# EAGLE library part 504520-0691 (library 504520-0691)
micro-SIM Card Connector; Pin-Eject Type; Dual Hook Locks; Anti-Buckling Terminal
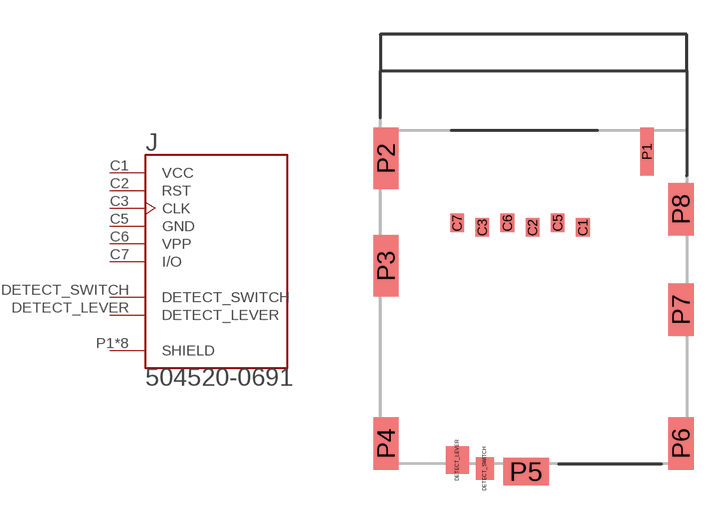
[diagram p0: symbol with the pads of MOLEX_504520-0691; footprint MOLEX_504520-0691]

Designator prefix J

## 504520-0691 (Description: Connector: for cards; Nano SIM; without card tray; SMT; PIN: 6; Digi-Key_Part_Number: WM12731CT-ND; Digi-Key_Purchase_URL: https://www.digikey.cz/product-detail/en/molex-llc/5045200691/WM12731CT-ND/5822267?utm_source=snapeda&utm_medium=aggregator&utm_campaign=symbol; MF: Molex; MP: 5045200691; Package: None)  [MOLEX_504520-0691]
C1  VCC  pwr
C2  RST
C3  CLK
C5  GND  pwr
C6  VPP  pwr
C7  I/O
DETECT_LEVER  DETECT_LEVER  in
DETECT_SWITCH  DETECT_SWITCH  in
P1  SHIELD  pas
P2  SHIELD  pas
P3  SHIELD  pas
P4  SHIELD  pas
P5  SHIELD  pas
P6  SHIELD  pas
P7  SHIELD  pas
P8  SHIELD  pas

## Footprint MOLEX_504520-0691 (pad centres in mm)
smd 0.6 x 0.8: C1 2.155,0; C2 -0.045,0; C3 -2.245,0; C5 1.055,0.2; C6 -1.145,0.2; C7 -3.345,0.2
smd 1 x 1.2: DETECT_LEVER -3.33,-10.18
smd 0.8 x 1: DETECT_SWITCH -2.13,-10.55
smd 0.6 x 2.1: P1 4.96,3.32
smd 1.1 x 2.7: P2 -6.45,3.02; P3 -6.45,-1.68
smd 1.1 x 2.3: P4 -6.45,-9.45; P6 6.45,-9.45; P7 6.45,-3.6; P8 6.45,0.8
smd 2 x 1.2: P5 -0.33,-10.68